# Altium footprint library Capacitors_Semi.PcbLib: 29 footprints (part 1 of 2)
Each footprint in its own frame and in the unit in brackets; x right, y up, seen from the top. Pads: shape width x height; smd on the part's side, far side on the other; paste and mask are expansions set on the pad; w line width, h text height; cw(c..) or ccw(c..) is an arc to the next point about the centre after c.
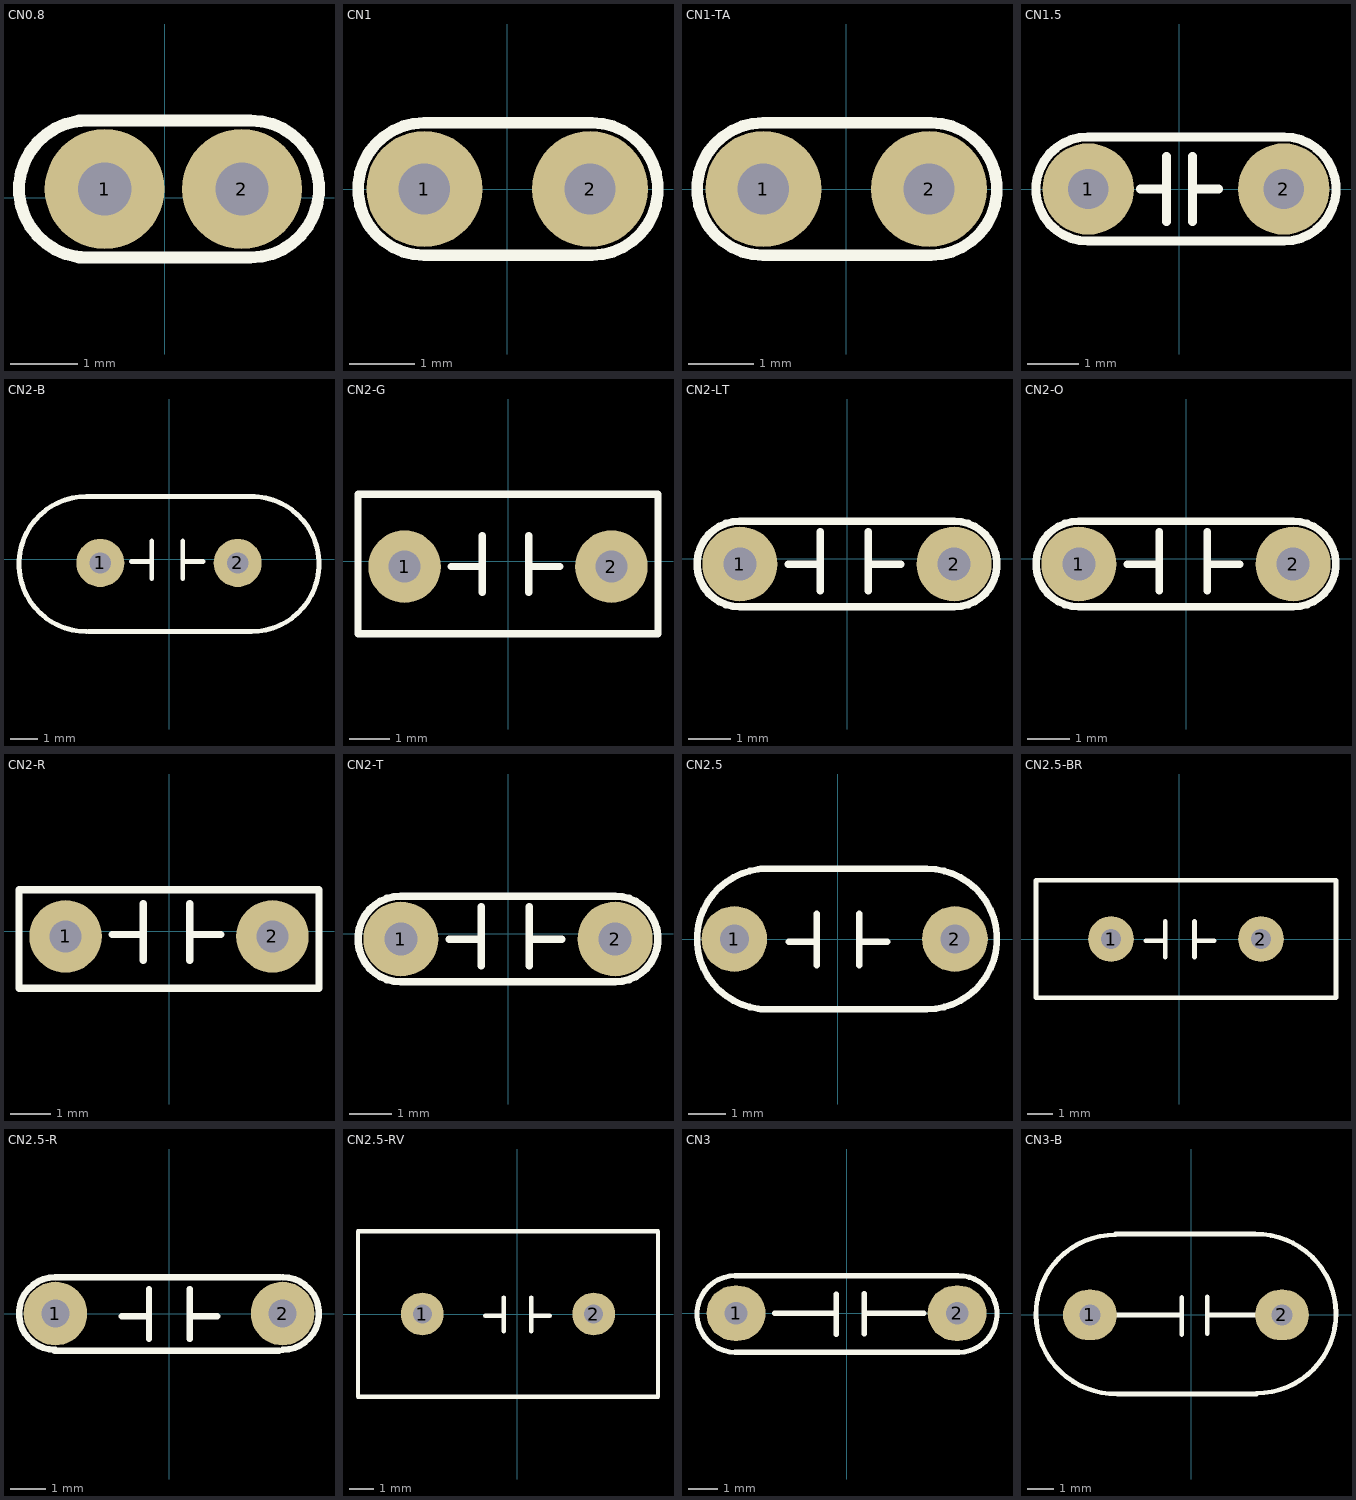
[diagram p0: the footprints below, top view; thin cyan lines are the x and y axes]

## CN0.8 [mil]
height 200
pads (2):
  round 70 hole 31: 1(-35,5) 2(45,5)
Top Overlay:
  lines w7: -50,-35 50,-35 ccw(c50,5) 50,45 -50,45 ; -45,-35 cw(c-45,5) -45,45
3D body "User Library-0,22uF Capacitor 2,54 mm.step": height 157.48, standoff -88.58, extent -67.84,-38.3 77.84,48.71

## CN1 [mil]
height 200
pads (2):
  round 70 hole 31: 1(-50,0) 2(50,0)
Top Overlay:
  lines w7: 50,-40 -50,-40 cw(c-50,0) -50,40 50,40 ; 51,-40 ccw(c51,0) 51,40
3D body "SW3dPS-Cap 100n.STEP": height 265, standoff -46.85, extent -115,-33.39 114.87,33.4

## CN1-TA [mil]
height 200
pads (2):
  round 70 hole 31: 1(-50,0) 2(50,0)
Top Overlay:
  lines w7: 50,-40 -50,-40 cw(c-50,0) -50,40 50,40 ; 51,-40 ccw(c51,0) 51,40
3D body "User Library-CAP_TANT_0_1.step": height 334.65, standoff -98.43, extent -85.53,-85 85.53,86.24

## CN1.5 [mil]
height 200
pads (2):
  round 70 hole 31: 1(-70,0) 2(80,0)
Top Overlay:
  lines w7: -30,0 -10,0 ; -10,-25 -10,25 ; 10,-25 10,25 ; 10,0 30,0 ; -70,-40 cw(c-70,0) -70,40 80,40 cw(c80,0) 80,-40 -70,-40
3D body "cn104.STEP": height 235, standoff -76.85, extent -109.86,-33.39 120,33.4

## CN2-B [mil]
height 200
pads (2):
  round 70 hole 31: 1(-100,-5) 2(100,-5)
Top Overlay:
  lines w7: -120,-105 cw(c-120,-6.57) -120,91.85 125,91.85 ; -55,-3.15 -25,-3.15 ; -25,-28.15 -25,26.85 ; 20,-28.15 20,26.85 ; 20,-3.15 50,-3.15 ; 120,-105 ccw(c120,-6.57) 120,91.85
  lines w7.09: -116.57,-105 120,-105
3D body "User Library-TDK_CAP_CK45_.step": height 492.07, standoff -196.85, extent -216.49,-103.43 216.46,93.43

## CN2-G [mil]
height 200
pads (2):
  round 70 hole 31: 1(-100,-5) 2(100,-5)
Top Overlay:
  lines w7: -55,-5 -25,-5 ; -25,-30 -25,25 ; 20,-30 20,25 ; 20,-5 50,-5
  lines w7.09: -145,-70 -145,65 145,65 145,-70 -110,-70 -145,-70
3D body "User Library-Capacitor no pol 0_2in pitch.step": height 300, standoff -78.74, extent -105,-65 115,60

## CN2-LT [mil]
height 200
pads (2):
  round 70 hole 31: 1(-100,-5) 2(100,-5)
Top Overlay:
  lines w7: -55,-5 -25,-5 ; -25,-30 -25,25 ; 20,-30 20,25 ; 20,-5 50,-5 ; -100,-45 cw(c-100,-5) -100,35 100,35 cw(c100,-5) 100,-45 -100,-45
3D body "User Library-0,1uF Capacitor 5,08 mm.step": height 275.59, standoff -54.72, extent -109.84,-48.3 109.84,38.7

## CN2-O [mil]
height 200
pads (2):
  round 70 hole 31: 1(-100,-5) 2(100,-5)
Top Overlay:
  lines w7: -55,-5 -25,-5 ; -25,-30 -25,25 ; 20,-30 20,25 ; 20,-5 50,-5 ; -100,-45 cw(c-100,-5) -100,35 100,35 cw(c100,-5) 100,-45 -100,-45
3D body "1.5x6.step": height 359.84, standoff -148.32, extent -139.26,-56.17 139.28,46.19

## CN2-R [mil]
height 200
pads (2):
  round 70 hole 31: 1(-100,-5) 2(100,-5)
Top Overlay:
  lines w7: -55,-3.15 -25,-3.15 ; -25,-28.15 -25,26.85 ; 20,-28.15 20,26.85 ; 20,-3.15 50,-3.15
  lines w7.09: -145,-55 145,-55 145,40 -145,40 -145,-55
3D body "User Library-Cap-5 (7_2x7_5x2_2).step": height 335.83, standoff -118.11, extent -141.73,-50 141.73,36.61

## CN2-T [mil]
height 200
pads (2):
  round 70 hole 31: 1(-100,-5) 2(100,-5)
Top Overlay:
  lines w7: -55,-5 -25,-5 ; -25,-30 -25,25 ; 20,-30 20,25 ; 20,-5 50,-5 ; -100,-45 cw(c-100,-5) -100,35 100,35 cw(c100,-5) 100,-45 -100,-45
3D body "User Library-Disc_CAP d6x3_5_5mm.step": height 318.88, standoff -79.53, extent -118.11,-47.68 118.11,35

## CN2.5 [mil] "Tu pin to pin 250mil"
height 200
pads (2):
  round 70 hole 31: 1(-110,0) 2(125,0)
Top Overlay:
  lines w7: -82,-75 95,-75 ; -82,75 95,75 ; -75,-74.8 cw(c-75,0) -75,74.8 ; -52,-3 -22,-3 ; -22,-28 -22,27 ; 23,-28 23,27 ; 23,-3 53,-3 ; 95,-74.8 ccw(c95,0) 95,74.8
3D body "User Library-Film Capacitor 6x8mm.step": height 538.88, standoff -130.41, extent -152.48,-80 162.48,77.48

## CN2.5-BR [mil] "Tu pin to pin 250mil"
height 200
pads (2):
  round 70 hole 31: 1(-105,0) 2(125,0)
Top Overlay:
  lines w7: -52,-3 -22,-3 ; -22,-28 -22,27 ; 23,-28 23,27 ; 23,-3 53,-3
  lines w7.09: -220,-90 240,-90 240,90 -220,90 -220,-90
3D body "User Library-CD15 (1).step": height 366.14, standoff -78.74, extent -214.41,-84.65 234.41,84.65

## CN2.5-R [mil] "Tu pin to pin 250mil"
height 200
pads (2):
  round 70 hole 31: 1(-125,0) 2(125,0)
Top Overlay:
  lines w7: -126,-41 121,-41 ; -125,-40 cw(c-125,0) -125,40 122,40 ; -52,-3 -22,-3 ; -22,-28 -22,27 ; 23,-28 23,27 ; 23,-3 53,-3 ; 125,-40 ccw(c125,0) 125,40
3D body "User Library-6mm radial ceramic disc capacitor.STEP": height 878.72, standoff -444.88, extent -108.11,-80 128.11,69.61

## CN2.5-RV [mil] "Tu pin to pin 250mil"
height 200
pads (2):
  round 70 hole 31: 1(-155,0) 2(125,0)
Top Overlay:
  lines w7: -52,-3 -22,-3 ; -22,-28 -22,27 ; 23,-28 23,27 ; 23,-3 53,-3
  lines w7.09: -260,-135 -260,135 230,135 230,-135 -260,-135
3D body "User Library-CL21 12_5x12x7 Pitch 7.step": height 551.18, standoff -157.48, extent -261.06,-137.79 231.06,137.8

## CN3 [mil] "Cap np W 0.3"
height 200
pads (2):
  oval 80x75 hole 31: 1(-150,0) 2(150,0)
Top Overlay:
  lines w7: -151,-53 cw(c-151,-1) -151,51 ; -150,51 150,51 ; -149,-53 150,-53 ; -98,0 -14,0 ; -14,-29 -14,26 ; 24,-28 24,27 ; 24,0 105,0 ; 150.96,50.99 cw(c152,-1) 152,-53
3D body "SW3dPS-Panasonic ECK-A3D102KBP.STEP": height 419.15, standoff -100, extent -157.5,-40 157.5,54.19

## CN3-B [mil] "Cap np W 0.3"
height 200
pads (2):
  oval 80x75 hole 31: 1(-150,0) 2(135,0)
Top Overlay:
  lines w7: -112,119.11 ccw(c-112,1) -109.64,-117.09 ; -110,0 -14,0 ; -14,-29 -14,26 ; 24,-28 24,27 ; 24,0 105,0 ; 95,120 cw(c97.04,1.91) 97.04,-116.2
  lines w7.09: -112,120 95,120 ; -109.64,-117.09 97.04,-117.09
3D body "User Library-PB-5R0V104-R.STEP": height 531.5, standoff -82.68, extent -229.88,-118.11 215,118.11